# Altium footprint library J104D2C3VDCP20S.PcbLib: 1 footprints
Each footprint in its own frame and in the unit in brackets; x right, y up, seen from the top. Pads: shape width x height; smd on the part's side, far side on the other; paste and mask are expansions set on the pad; w line width, h text height; cw(c..) or ccw(c..) is an arc to the next point about the centre after c.
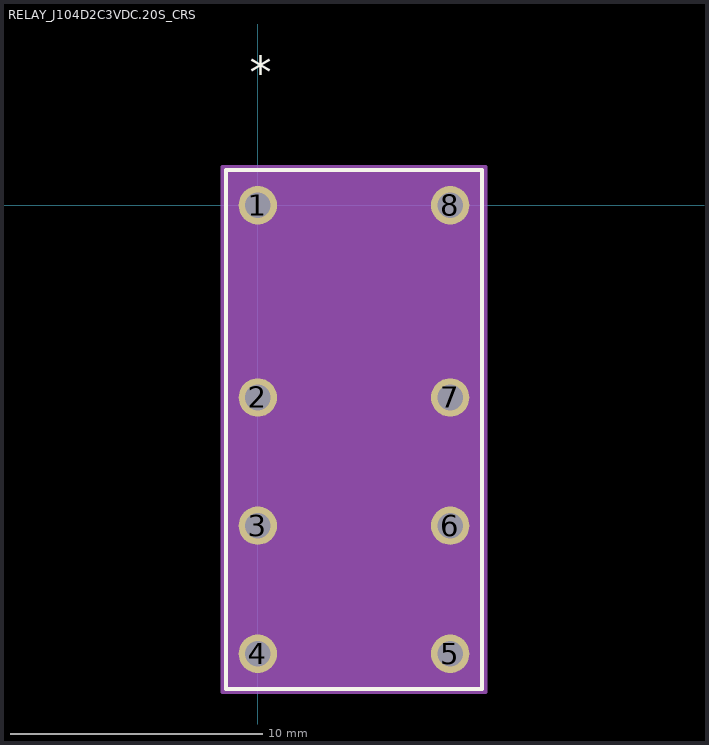
[diagram p0: the footprint, top view; thin cyan lines are the x and y axes]

## RELAY_J104D2C3VDC.20S_CRS [mil]
pads (8):
  round 60 hole 40 paste-30 mask+0: 1(0,0) 2(0,-300) 3(0,-500) 4(0,-700) 5(300,-700) 6(300,-500) 7(300,-300) 8(300,0)
Top Overlay:
  lines w6: -50,-755 350,-755 350,55 -50,55 -50,-755
  text "*" at -12.5,183.33 h50
Mechanical 13:
  circle w0: c30,0 r0
  lines w0: 138,50 ccw(c150,50) 162,50
  lines w1: -45,-750 345,-750 345,50 -45,50 -45,-750
  text "*" at -12.5,83.33 h50
Mechanical 15:
  region: 355,-760 -55,-760 -55,60 355,60
  region: 345,-750 -45,-750 -45,50 345,50
  lines w6: -55,-760 -55,60 355,60 355,-760 -55,-760
3D body "RELAY_J104D2C3VDC20S_CRS.step": height 450.12, standoff 0, extent -45,-750 345,50